# Altium schematic symbol library TPS3820-33DBVT.SchLib: 1 symbol
Pins are listed as number, name and electrical type; pins without a type are passive.

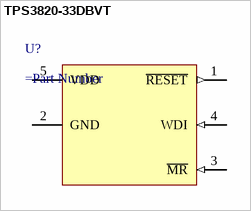
[diagram p0: symbol TPS3820-33DBVT]

## TPS3820-33DBVT
designator U?
=Description
pins: 1 ~{RESET} (out), 2 GND (power), 3 ~{MR} (in), 4 WDI (in), 5 VDD (power)